# EAGLE library part LM358P (library LM358P)
LM358P, Dual Operational Amplifier 0.7MHz 5 to 28V, 8-Pin PDIP Source: Datasheet <http://www.ti.com/lit/ds/symlink/lm358a.pdf>
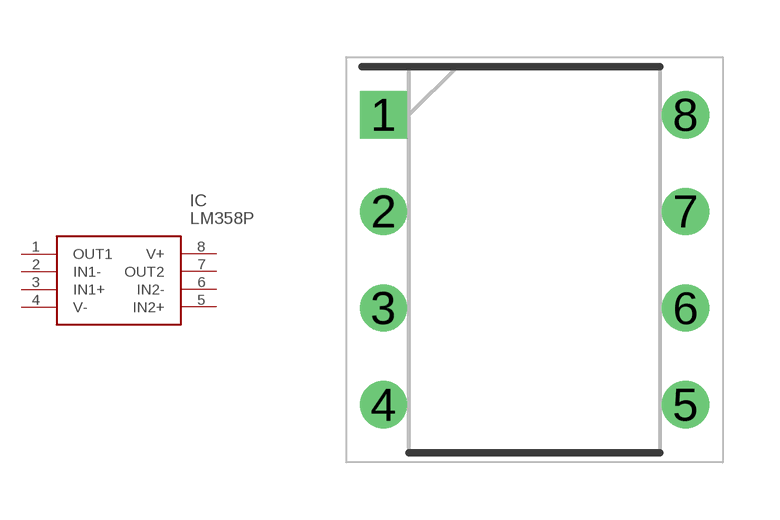
[diagram p0: symbol with the pads of DIP794W53P254L959H508Q8N; footprint DIP794W53P254L959H508Q8N]

Designator prefix IC

## LM358P (Description: LM358P, Dual Operational Amplifier 0.7MHz 5 to 28V, 8-Pin PDIP; Height: 5.08mm; Manufacturer_Name: Texas Instruments; Manufacturer_Part_Number: LM358P; Mouser_Part_Number: 595-LM358P; Mouser_Price-Stock: https://www.mouser.co.uk/ProductDetail/Texas-Instruments/LM358P?qs=X1HXWTtiZ0QtOTT8%252BVnsyw%3D%3D)  [DIP794W53P254L959H508Q8N]
1  OUT1
2  IN1-
3  IN1+
4  V-
5  IN2+
6  IN2-
7  OUT2
8  V+

## Footprint DIP794W53P254L959H508Q8N (pad centres in mm)
P (R-PDIP-T8)
drill 0.73 pad 1.13 square: 1 -3.97,3.81
drill 0.73 pad 1.13: 2 -3.97,1.27; 3 -3.97,-1.27; 4 -3.97,-3.81; 5 3.97,-3.81; 6 3.97,-1.27; 7 3.97,1.27; 8 3.97,3.81